# Altium footprint library RFID.PcbLib: 1 footprints
Each footprint in its own frame and in the unit in brackets; x right, y up, seen from the top. Pads: shape width x height; smd on the part's side, far side on the other; paste and mask are expansions set on the pad; w line width, h text height; cw(c..) or ccw(c..) is an arc to the next point about the centre after c.
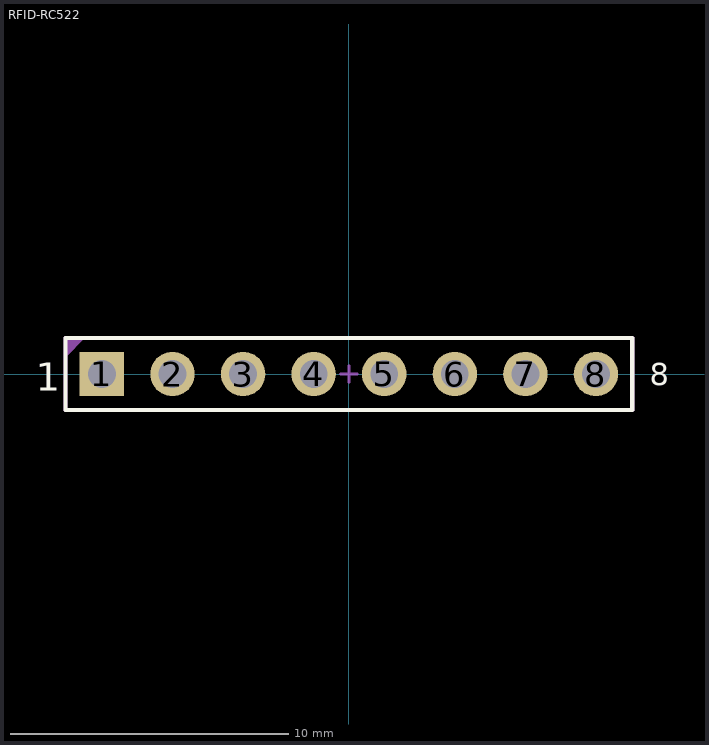
[diagram p0: the footprint, top view; thin cyan lines are the x and y axes]

## RFID-RC522 [mm]
pads (8):
  rect 1.6x1.6 hole 1: 1(-8.89,0)
  round 1.6 hole 1: 2(-6.35,0) 3(-3.81,0) 4(-1.27,0) 5(1.27,0) 6(3.81,0) 7(6.35,0) 8(8.89,0)
Top Overlay:
  lines w0.153: -10.2,-1.3 10.2,-1.3 10.2,1.3 -10.2,1.3 -10.2,-1.3
  text "8" at 10.833,-0.4 h0.8
  text "1" at -11.269,-0.608 h1.02
Top Assembly:
  region: -10.2,1.3 -9.5,1.3 -10.2,0.6
  lines w0.153: -10.2,-1.3 10.2,-1.3 10.2,1.3 -10.2,1.3 -10.2,-1.3
  text "'.Designator'" at -4.532,-0.333 h0.8
Mechanical 15:
  lines w0.1: -0.3,0 0.3,0 ; 0,-0.3 0,0.3
  lines w0.153: -10.2,-1.3 10.2,-1.3 10.2,1.3 -10.2,1.3 -10.2,-1.3
3D body "User Library-RFID.STEP": height 10.8, standoff -0.74, extent -20.544,-2.371 19.456,57.629